# Altium footprint library STM32L422KBT6.PcbLib: 1 footprints
Each footprint in its own frame and in the unit in brackets; x right, y up, seen from the top. Pads: shape width x height; smd on the part's side, far side on the other; paste and mask are expansions set on the pad; w line width, h text height; cw(c..) or ccw(c..) is an arc to the next point about the centre after c.
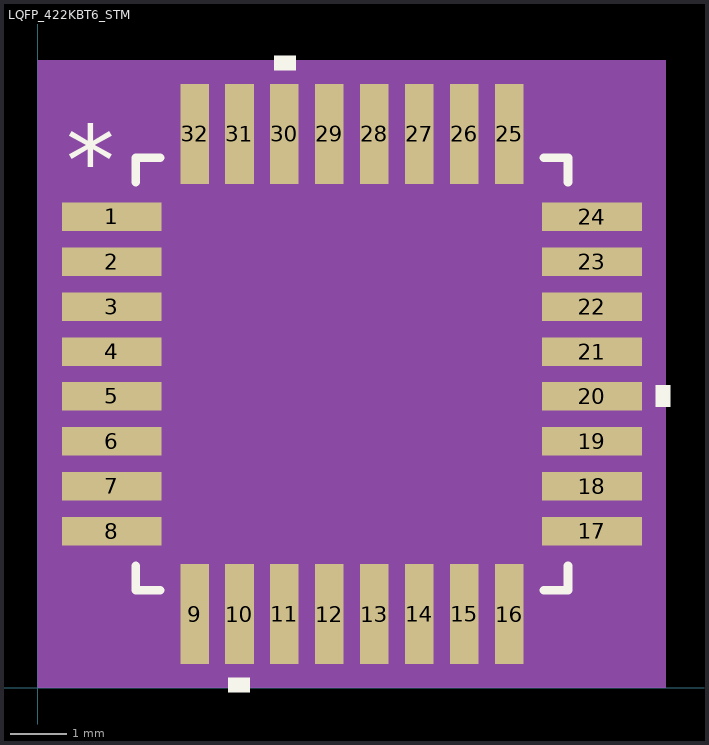
[diagram p0: the footprint, top view; thin cyan lines are the x and y axes]

## LQFP_422KBT6_STM [mil]
pads (32):
  rect 70x20 smd paste+0 mask+0: 1(51.75,330.25) 2(51.75,298.75) 3(51.75,267.25) 4(51.75,235.75) 5(51.75,204.25) 6(51.75,172.75) 7(51.75,141.25) 8(51.75,109.75) 17(388.25,109.75) 18(388.25,141.25) 19(388.25,172.75) 20(388.25,204.25) 21(388.25,235.75) 22(388.25,267.25) 23(388.25,298.75) 24(388.25,330.25)
  rect 20x70 smd paste+0 mask+0: 9(109.75,51.75) 10(141.25,51.75) 11(172.75,51.75) 12(204.25,51.75) 13(235.75,51.75) 14(267.25,51.75) 15(298.75,51.75) 16(330.25,51.75) 25(330.25,388.25) 26(298.75,388.25) 27(267.25,388.25) 28(235.75,388.25) 29(204.25,388.25) 30(172.75,388.25) 31(141.25,388.25) 32(109.75,388.25)
Top Overlay:
  region: 433,212 443,212 443,197 433,197
  region: 180.5,433 165.5,433 165.5,443 180.5,443
  region: 148.5,7 133.5,7 133.5,-3 148.5,-3
  lines w6: 68.5,85.65 68.5,68.5 85.65,68.5 ; 68.5,354.35 68.5,371.5 85.65,371.5 ; 354.35,68.5 371.5,68.5 371.5,85.65 ; 354.35,371.5 371.5,371.5 371.5,354.35
  text "*" at 20,345 h50
Top Assembly:
  region: 440,0 0,0 0,440 440,440
Mechanical 13:
  lines w1: 78.5,311.5 128.5,361.5 ; 39,104.75 39,114.75 78.5,114.75 78.5,104.75 39,104.75 ; 39,136.25 39,146.25 78.5,146.25 78.5,136.25 39,136.25 ; 39,167.75 39,177.75 78.5,177.75 78.5,167.75 39,167.75 ; 39,199.25 39,209.25 78.5,209.25 78.5,199.25 39,199.25 ; 39,230.75 39,240.75 78.5,240.75 78.5,230.75 39,230.75 ; 39,262.25 39,272.25 78.5,272.25 78.5,262.25 39,262.25 ; 39,293.75 39,303.75 78.5,303.75 78.5,293.75 39,293.75 ; 39,325.25 39,335.25 78.5,335.25 78.5,325.25 39,325.25 ; 78.5,78.5 361.5,78.5 361.5,361.5 78.5,361.5 78.5,78.5 ; 104.75,39 104.75,78.5 114.75,78.5 114.75,39 104.75,39 ; 104.75,361.5 114.75,361.5 114.75,401 104.75,401 104.75,361.5 ; 136.25,39 136.25,78.5 146.25,78.5 146.25,39 136.25,39 ; 136.25,361.5 146.25,361.5 146.25,401 136.25,401 136.25,361.5 ; 167.75,39 167.75,78.5 177.75,78.5 177.75,39 167.75,39 ; 167.75,361.5 177.75,361.5 177.75,401 167.75,401 167.75,361.5 ; 199.25,39 199.25,78.5 209.25,78.5 209.25,39 199.25,39 ; 199.25,361.5 209.25,361.5 209.25,401 199.25,401 199.25,361.5 ; 230.75,39 230.75,78.5 240.75,78.5 240.75,39 230.75,39 ; 230.75,361.5 240.75,361.5 240.75,401 230.75,401 230.75,361.5 ; 262.25,39 262.25,78.5 272.25,78.5 272.25,39 262.25,39 ; 262.25,361.5 272.25,361.5 272.25,401 262.25,401 262.25,361.5 ; 293.75,39 293.75,78.5 303.75,78.5 303.75,39 293.75,39 ; 293.75,361.5 303.75,361.5 303.75,401 293.75,401 293.75,361.5 ; 325.25,39 325.25,78.5 335.25,78.5 335.25,39 325.25,39 ; 325.25,361.5 335.25,361.5 335.25,401 325.25,401 325.25,361.5 ; 361.5,104.75 361.5,114.75 401,114.75 401,104.75 361.5,104.75 ; 361.5,136.25 361.5,146.25 401,146.25 401,136.25 361.5,136.25 ; 361.5,167.75 361.5,177.75 401,177.75 401,167.75 361.5,167.75 ; 361.5,199.25 361.5,209.25 401,209.25 401,199.25 361.5,199.25 ; 361.5,230.75 361.5,240.75 401,240.75 401,230.75 361.5,230.75 ; 361.5,262.25 361.5,272.25 401,272.25 401,262.25 361.5,262.25 ; 361.5,293.75 361.5,303.75 401,303.75 401,293.75 361.5,293.75 ; 361.5,325.25 361.5,335.25 401,335.25 401,325.25 361.5,325.25
  text "*" at 81,321 h50
Mechanical 15:
  region: 93.75,68.5 68.5,68.5 68.5,93.75 15,93.75 15,346.25 68.5,346.25 68.5,371.5 93.75,371.5 93.75,425 346.25,425 346.25,371.5 371.5,371.5 371.5,346.25 425,346.25 425,93.75 371.5,93.75 371.5,68.5 346.25,68.5 346.25,15 93.75,15
  lines w6: 15,93.75 68.5,93.75 68.5,68.5 93.75,68.5 93.75,15 346.25,15 346.25,68.5 371.5,68.5 371.5,93.75 425,93.75 425,346.25 371.5,346.25 371.5,371.5 346.25,371.5 346.25,425 93.75,425 93.75,371.5 68.5,371.5 68.5,346.25 15,346.25 15,93.75
3D body "LQFP_422KBT6_STM.step": height 63.11, standoff 0, extent 39.02,39.02 400.98,400.98